# Altium integrated library NSC Temperature Sensor.IntLib: 347 symbols (part 7 of 9)
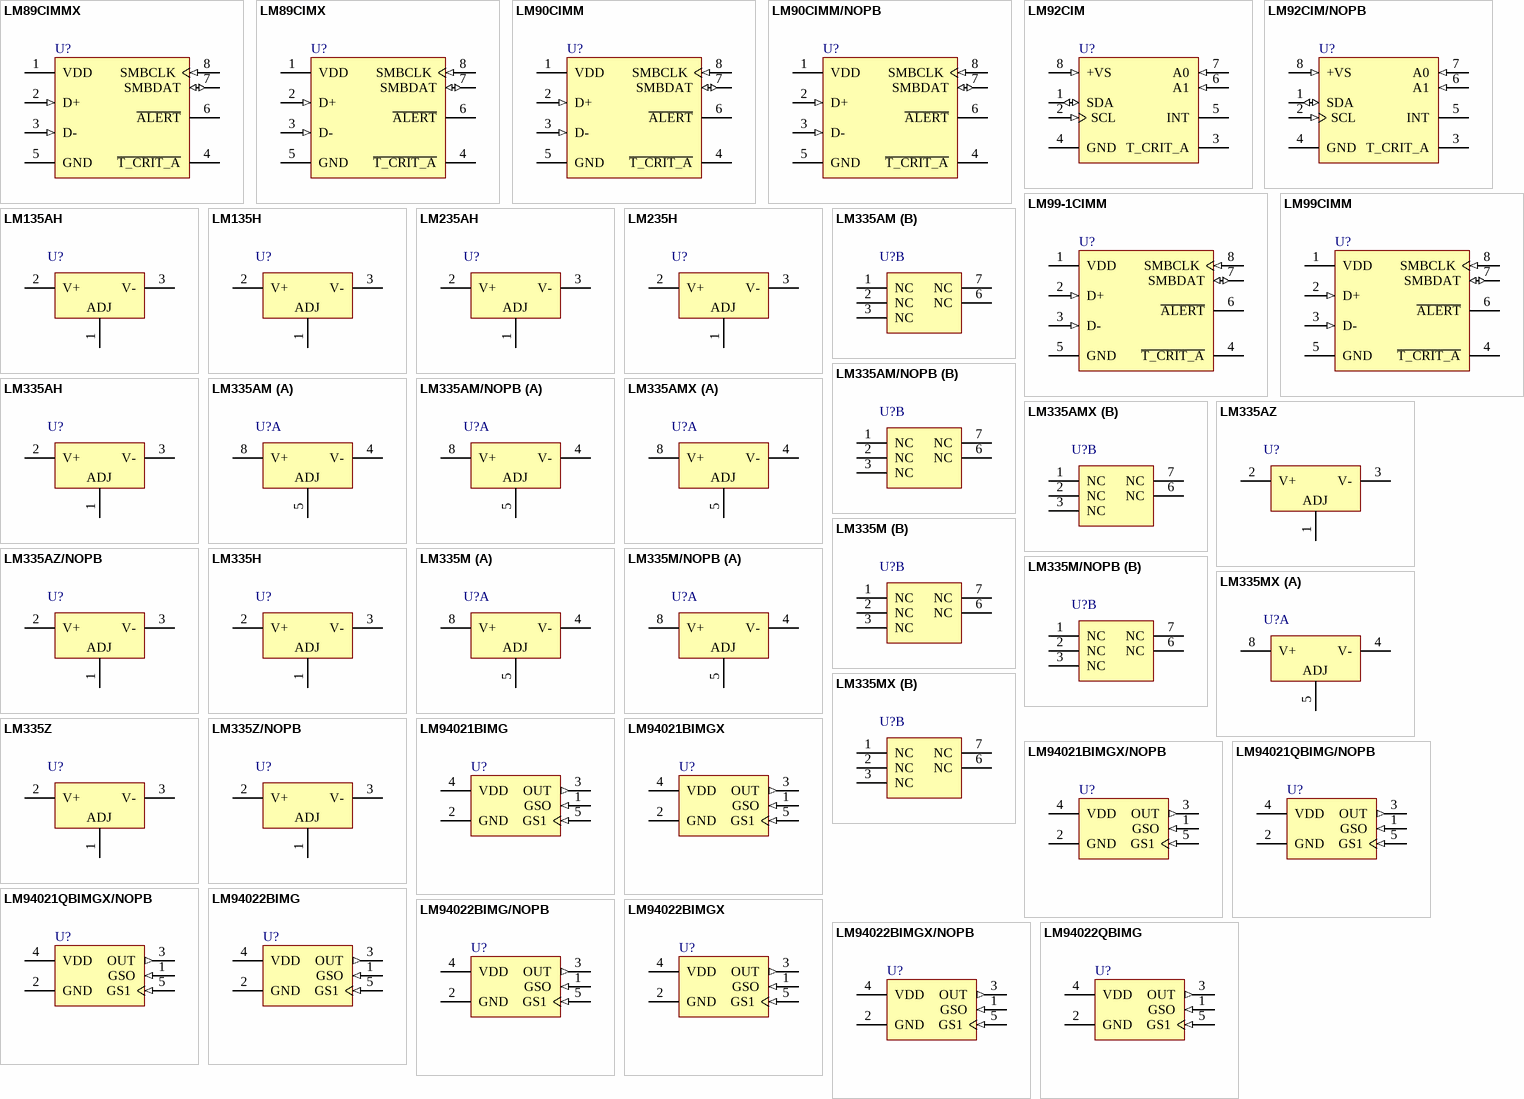
[diagram p15: symbols LM89CIMMX to LM94022QBIMG]

## LM92CIM
designator U?
±0.33ºC Accurate, 12-Bit + Sign Temperature Sensor and Thermal Window Comparator with Two-Wire Interface, 8-pin Narrow SOIC; PartNumber: LM92CIM; Manufacturer: National Semiconductor; PackageTopMarking: NSZXTT*LM92*CIM; PowerWise: Y; CompType: Temp Sensor IC; Published: 4-Dec-2008; DatasheetVersion: Mar-2005; PackageVersion: revM, May-2009; PackageReference: M08A; Publisher: Altium Limited; PackageDescription: SOIC Narrow, 4.9 x 3.9 x 1.45mm, 8 Lead, 1.27mm Pitch; Supplier 1: Farnell; Supplier Part Number 1: 9489711; RoHS: N; PinCount: 8; Code_JEDEC: MS-012-AA; Code_IPC: SOIC127P600-8; ComponentLink1Description: LM92 Datasheet; ComponentLink1URL: http://www.national.com/ds/LM/LM92.pdf; ComponentLink2Description: LM92 Web Page; ComponentLink2URL: http://www.national.com/pf/LM/LM92.html; ComponentLink3Description: M08A Package Page; ComponentLink3URL: http://www.national.com/packaging/folders/m08a.html
footprint M08A_N (SOIC, 8-Leads, Body 4.9x3.9mm, Pitch 1.27mm, IPC Medium Density)
footprint M08A_L (SOIC, 8-Leads, Body 4.9x3.9mm, Pitch 1.27mm, IPC High Density)
footprint M08A_M (SOIC, 8-Leads, Body 4.9x3.9mm, Pitch 1.27mm, IPC Low Density)
pins: 1 SDA (io), 2 SCL (in), 3 T_CRIT_A (oc), 4 GND (power), 5 INT (oc), 6 A1 (in), 7 A0 (in), 8 +VS (in)

## LM92CIM/NOPB
designator U?
±0.33°C Accurate, 12-Bit + Sign Temperature Sensor and Thermal Window Comparator with Two-Wire Interface, 8-pin Narrow SOIC, Pb-Free; PartNumber: LM92CIM/NOPB; Manufacturer: National Semiconductor; PackageTopMarking: NSZXTT*LM92*CIM; PowerWise: Y; CompType: Temp Sensor IC; Published: 1-Mar-2010; DatasheetVersion: Mar-2005; PackageVersion: revM, May-2009; PackageReference: M08A; Publisher: Altium Limited; PackageDescription: SOIC Narrow, 4.9 x 3.9 x 1.45mm, 8 Lead, 1.27mm Pitch; Supplier 1: Digi-Key; Supplier Part Number 1: LM92CIM-ND; Supplier 2: Farnell; Supplier Part Number 2: 1150316; RoHS: Y; PinCount: 8; Code_JEDEC: MS-012-AA; Code_IPC: SOIC127P600-8; ComponentLink1Description: LM92 Datasheet; ComponentLink1URL: http://www.national.com/ds/LM/LM92.pdf; ComponentLink2Description: LM92 Web Page; ComponentLink2URL: http://www.national.com/pf/LM/LM92.html; ComponentLink3Description: M08A Package Page; ComponentLink3URL: http://www.national.com/packaging/folders/m08a.html
footprint M08A_N (SOIC, 8-Leads, Body 4.9x3.9mm, Pitch 1.27mm, IPC Medium Density)
footprint M08A_L (SOIC, 8-Leads, Body 4.9x3.9mm, Pitch 1.27mm, IPC High Density)
footprint M08A_M (SOIC, 8-Leads, Body 4.9x3.9mm, Pitch 1.27mm, IPC Low Density)
pins: 1 SDA (io), 2 SCL (in), 3 T_CRIT_A (oc), 4 GND (power), 5 INT (oc), 6 A1 (in), 7 A0 (in), 8 +VS (in)

## LM99-1CIMM
designator U?
±1ºC Accurate, Remote Diode and Local Digital Temperature Sensor with Two-Wire Interface, 8-pin Mini SOIC; PartNumber: LM99-1CIMM; Manufacturer: National Semiconductor; PackageTopMarking: ZXTT*T20C; PowerWise: Y; CompType: Temp Sensor IC; Published: 4-Dec-2008; DatasheetVersion: Jul-2003; PackageVersion: revF, Apr-2008; PackageReference: MUA08A; Publisher: Altium Limited; PackageDescription: MINI SOIC, .118 x .118 x .034in, 8 Lead, .0256in Pitch; Supplier 1: Farnell; Supplier Part Number 1: 1312804; RoHS: N; PinCount: 8; Code_JEDEC: MO-187-AA; ComponentLink1Description: LM99 Datasheet; ComponentLink1URL: http://www.national.com/ds/LM/LM99.pdf; ComponentLink2Description: LM99 Web Page; ComponentLink2URL: http://www.national.com/pf/LM/LM99.html; ComponentLink3Description: MUA08A Package Page; ComponentLink3URL: http://www.national.com/packaging/folders/mua08a.html
footprint MUA08A_N (TSOP, 8-Leads, Body 3x3mm, Pitch 0.65mm, IPC Medium Density)
footprint MUA08A_L (TSOP, 8-Leads, Body 3x3mm, Pitch 0.65mm, IPC High Density)
footprint MUA08A_M (TSOP, 8-Leads, Body 3x3mm, Pitch 0.65mm, IPC Low Density)
pins: 1 VDD (power), 2 D+ (in), 3 D- (in), 4 ~{T_CRIT_A} (oc), 5 GND (power), 6 ~{ALERT} (oc), 7 SMBDAT (io), 8 SMBCLK (in)

## LM99CIMM
designator U?
±1ºC Accurate, Remote Diode and Local Digital Temperature Sensor with Two-Wire Interface, 8-pin Mini SOIC; PartNumber: LM99CIMM; Manufacturer: National Semiconductor; PackageTopMarking: ZXTT*T17C; PowerWise: Y; CompType: Temp Sensor IC; Published: 4-Dec-2008; DatasheetVersion: Jul-2003; PackageVersion: revF, Apr-2008; PackageReference: MUA08A; Publisher: Altium Limited; PackageDescription: MINI SOIC, .118 x .118 x .034in, 8 Lead, .0256in Pitch; Supplier 1: Farnell; Supplier Part Number 1: 1312805; RoHS: N; PinCount: 8; Code_JEDEC: MO-187-AA; ComponentLink1Description: LM99 Datasheet; ComponentLink1URL: http://www.national.com/ds/LM/LM99.pdf; ComponentLink2Description: LM99 Web Page; ComponentLink2URL: http://www.national.com/pf/LM/LM99.html; ComponentLink3Description: MUA08A Package Page; ComponentLink3URL: http://www.national.com/packaging/folders/mua08a.html
footprint MUA08A_N (TSOP, 8-Leads, Body 3x3mm, Pitch 0.65mm, IPC Medium Density)
footprint MUA08A_L (TSOP, 8-Leads, Body 3x3mm, Pitch 0.65mm, IPC High Density)
footprint MUA08A_M (TSOP, 8-Leads, Body 3x3mm, Pitch 0.65mm, IPC Low Density)
pins: 1 VDD (power), 2 D+ (in), 3 D- (in), 4 ~{T_CRIT_A} (oc), 5 GND (power), 6 ~{ALERT} (oc), 7 SMBDAT (io), 8 SMBCLK (in)

## LM135AH
designator U?
Precision Temperature Sensor, 3-pin TO-46; PartNumber: LM135AH; Manufacturer: National Semiconductor; PackageTopMarking: NSXYTTE# LM135AH; PowerWise: N; CompType: Temp Sensor IC; High-Reliability: Y; Published: 29-May-2009; DatasheetVersion: Dec-2008; PackageVersion: revF, Apr-2002; PackageReference: H03H; Publisher: Altium Limited; PackageDescription: Metal Can, TO-46, 3 Lead, .100in Dia, P.C.; RoHS: N; PinCount: 3; Code_JEDEC: TO-46; ComponentLink1Description: LM135A Datasheet; ComponentLink1URL: http://www.national.com/ds/LM/LM135A.pdf; ComponentLink2Description: LM135A Web Page; ComponentLink2URL: http://www.national.com/pf/LM/LM135A.html; ComponentLink3Description: H03H Package Page; ComponentLink3URL: http://www.national.com/packaging/folders/h03h.html
footprint H03H (Can; 3 Leads; Pin Circle Dia. 2.54 mm; Lead Dia. 0.48 mm (max))
pins: 1 ADJ, 2 V+, 3 V-

## LM135H
designator U?
Precision Temperature Sensor, 3-pin TO-46; PartNumber: LM135H; Manufacturer: National Semiconductor; PackageTopMarking: NSXYTTE# LM135H; PowerWise: N; CompType: Temp Sensor IC; High-Reliability: Y; Published: 29-May-2009; DatasheetVersion: Dec-2008; PackageVersion: revF, Apr-2002; PackageReference: H03H; Publisher: Altium Limited; PackageDescription: Metal Can, TO-46, 3 Lead, .100in Dia, P.C.; Supplier 1: Farnell; Supplier Part Number 1: 1216167; RoHS: N; PinCount: 3; Code_JEDEC: TO-46; ComponentLink1Description: LM135 Datasheet; ComponentLink1URL: http://www.national.com/ds/LM/LM135.pdf; ComponentLink2Description: LM135 Web Page; ComponentLink2URL: http://www.national.com/pf/LM/LM135.html; ComponentLink3Description: H03H Package Page; ComponentLink3URL: http://www.national.com/packaging/folders/h03h.html
footprint H03H (Can; 3 Leads; Pin Circle Dia. 2.54 mm; Lead Dia. 0.48 mm (max))
pins: 1 ADJ, 2 V+, 3 V-

## LM235AH
designator U?
Precision Temperature Sensor, 3-pin TO-46; PartNumber: LM235AH; Manufacturer: National Semiconductor; PackageTopMarking: NSXYTTE# LM235AH; PowerWise: N; CompType: Temp Sensor IC; High-Reliability: Y; Published: 29-May-2009; DatasheetVersion: Dec-2008; PackageVersion: revF, Apr-2002; PackageReference: H03H; Publisher: Altium Limited; PackageDescription: Metal Can, TO-46, 3 Lead, .100in Dia, P.C.; RoHS: N; PinCount: 3; Code_JEDEC: TO-46; ComponentLink1Description: LM235A Datasheet; ComponentLink1URL: http://www.national.com/ds/LM/LM235A.pdf; ComponentLink2Description: LM235A Web Page; ComponentLink2URL: http://www.national.com/pf/LM/LM235A.html; ComponentLink3Description: H03H Package Page; ComponentLink3URL: http://www.national.com/packaging/folders/h03h.html
footprint H03H (Can; 3 Leads; Pin Circle Dia. 2.54 mm; Lead Dia. 0.48 mm (max))
pins: 1 ADJ, 2 V+, 3 V-

## LM235H
designator U?
Precision Temperature Sensor, 3-pin TO-46; PartNumber: LM235H; Manufacturer: National Semiconductor; PackageTopMarking: NSXYTTE# LM235H; PowerWise: N; CompType: Temp Sensor IC; High-Reliability: Y; Published: 29-May-2009; DatasheetVersion: Dec-2008; PackageVersion: revF, Apr-2002; PackageReference: H03H; Publisher: Altium Limited; PackageDescription: Metal Can, TO-46, 3 Lead, .100in Dia, P.C.; RoHS: N; PinCount: 3; Code_JEDEC: TO-46; ComponentLink1Description: LM235 Datasheet; ComponentLink1URL: http://www.national.com/ds/LM/LM235.pdf; ComponentLink2Description: LM235 Web Page; ComponentLink2URL: http://www.national.com/pf/LM/LM235.html; ComponentLink3Description: H03H Package Page; ComponentLink3URL: http://www.national.com/packaging/folders/h03h.html
footprint H03H (Can; 3 Leads; Pin Circle Dia. 2.54 mm; Lead Dia. 0.48 mm (max))
pins: 1 ADJ, 2 V+, 3 V-

## LM335AH
designator U?
Precision Temperature Sensor, 3-pin TO-46; PartNumber: LM335AH; Manufacturer: National Semiconductor; PackageTopMarking: NSXYTTE# LM335AH; PowerWise: N; CompType: Temp Sensor IC; High-Reliability: Y; Published: 29-May-2009; DatasheetVersion: Dec-2008; PackageVersion: revF, Apr-2002; PackageReference: H03H; Publisher: Altium Limited; PackageDescription: Metal Can, TO-46, 3 Lead, .100in Dia, P.C.; RoHS: N; PinCount: 3; Code_JEDEC: TO-46; ComponentLink1Description: LM335A Datasheet; ComponentLink1URL: http://www.national.com/ds/LM/LM335A.pdf; ComponentLink2Description: LM335A Web Page; ComponentLink2URL: http://www.national.com/pf/LM/LM335A.html; ComponentLink3Description: H03H Package Page; ComponentLink3URL: http://www.national.com/packaging/folders/h03h.html
footprint H03H (Can; 3 Leads; Pin Circle Dia. 2.54 mm; Lead Dia. 0.48 mm (max))
pins: 1 ADJ, 2 V+, 3 V-

## LM335AM
designator U?
Precision Temperature Sensor, 8-pin Narrow SOIC; PartNumber: LM335AM; Manufacturer: National Semiconductor; PackageTopMarking: NSZXTT*LM335*AM; PowerWise: N; CompType: Temp Sensor IC; Published: 29-May-2009; DatasheetVersion: Dec-2008; PackageVersion: revM, May-2009; PackageReference: M08A; Publisher: Altium Limited; PackageDescription: SOIC Narrow, 4.9 x 3.9 x 1.45mm, 8 Lead, 1.27mm Pitch; Supplier 1: Farnell; Supplier Part Number 1: 4466822; RoHS: N; PinCount: 8; Code_JEDEC: MS-012-AA; Code_IPC: SOIC127P600-8; ComponentLink1Description: LM335A Datasheet; ComponentLink1URL: http://www.national.com/ds/LM/LM335.pdf; ComponentLink2Description: LM335A Web Page; ComponentLink2URL: http://www.national.com/pf/LM/LM335A.html; ComponentLink3Description: M08A Package Page; ComponentLink3URL: http://www.national.com/packaging/folders/m08a.html
footprint M08A_N (SOIC, 8-Leads, Body 4.9x3.9mm, Pitch 1.27mm, IPC Medium Density)
footprint M08A_L (SOIC, 8-Leads, Body 4.9x3.9mm, Pitch 1.27mm, IPC High Density)
footprint M08A_M (SOIC, 8-Leads, Body 4.9x3.9mm, Pitch 1.27mm, IPC Low Density)
part A pins: 4 V-, 5 ADJ, 8 V+
part B pins: 1 NC, 2 NC, 3 NC, 6 NC, 7 NC

## LM335AM/NOPB
designator U?
Precision Temperature Sensor, 8-pin Narrow SOIC, Pb-Free; PartNumber: LM335AM/NOPB; Manufacturer: National Semiconductor; PackageTopMarking: NSZXTT*LM335*AM; PowerWise: N; CompType: Temp Sensor IC; Published: 1-Mar-2010; DatasheetVersion: Dec-2008; PackageVersion: revM, May-2009; PackageReference: M08A; Publisher: Altium Limited; PackageDescription: SOIC Narrow, 4.9 x 3.9 x 1.45mm, 8 Lead, 1.27mm Pitch; Supplier 1: Digi-Key; Supplier Part Number 1: LM335AM-ND; Supplier 2: Farnell; Supplier Part Number 2: 1694532; RoHS: Y; PinCount: 8; Code_JEDEC: MS-012-AA; Code_IPC: SOIC127P600-8; ComponentLink1Description: LM335A Datasheet; ComponentLink1URL: http://www.national.com/ds/LM/LM335.pdf; ComponentLink2Description: LM335A Web Page; ComponentLink2URL: http://www.national.com/pf/LM/LM335A.html; ComponentLink3Description: M08A Package Page; ComponentLink3URL: http://www.national.com/packaging/folders/m08a.html
footprint M08A_N (SOIC, 8-Leads, Body 4.9x3.9mm, Pitch 1.27mm, IPC Medium Density)
footprint M08A_L (SOIC, 8-Leads, Body 4.9x3.9mm, Pitch 1.27mm, IPC High Density)
footprint M08A_M (SOIC, 8-Leads, Body 4.9x3.9mm, Pitch 1.27mm, IPC Low Density)
part A pins: 4 V-, 5 ADJ, 8 V+
part B pins: 1 NC, 2 NC, 3 NC, 6 NC, 7 NC

## LM335AMX
designator U?
Precision Temperature Sensor, 8-pin Narrow SOIC; PartNumber: LM335AMX; Manufacturer: National Semiconductor; PackageTopMarking: NSZXTT*LM335*AM; PowerWise: N; CompType: Temp Sensor IC; Published: 1-Mar-2010; DatasheetVersion: Dec-2008; PackageVersion: revM, May-2009; PackageReference: M08A; Publisher: Altium Limited; PackageDescription: SOIC Narrow, 4.9 x 3.9 x 1.45mm, 8 Lead, 1.27mm Pitch; RoHS: N; PinCount: 8; Code_JEDEC: MS-012-AA; Code_IPC: SOIC127P600-8; ComponentLink1Description: LM335A Datasheet; ComponentLink1URL: http://www.national.com/ds/LM/LM335.pdf; ComponentLink2Description: LM335A Web Page; ComponentLink2URL: http://www.national.com/pf/LM/LM335A.html; ComponentLink3Description: M08A Package Page; ComponentLink3URL: http://www.national.com/packaging/folders/m08a.html
footprint M08A_N (SOIC, 8-Leads, Body 4.9x3.9mm, Pitch 1.27mm, IPC Medium Density)
footprint M08A_L (SOIC, 8-Leads, Body 4.9x3.9mm, Pitch 1.27mm, IPC High Density)
footprint M08A_M (SOIC, 8-Leads, Body 4.9x3.9mm, Pitch 1.27mm, IPC Low Density)
part A pins: 4 V-, 5 ADJ, 8 V+
part B pins: 1 NC, 2 NC, 3 NC, 6 NC, 7 NC

## LM335AZ
designator U?
Precision Temperature Sensor, 3-pin TO-92; PartNumber: LM335AZ; Manufacturer: National Semiconductor; PackageTopMarking: NSXYTT*LM335*AZ; PowerWise: N; CompType: Temp Sensor IC; Published: 29-May-2009; DatasheetVersion: Dec-2008; PackageVersion: revG, Sep-2000; PackageReference: Z03A; Publisher: Altium Limited; PackageDescription: TO-92, Molded, 3 Lead; Supplier 1: Digi-Key; Supplier Part Number 1: LM335AZ-ND; Supplier 2: Farnell; Supplier Part Number 2: 4355260; RoHS: N; PinCount: 3; Code_JEDEC: TO-226-AA; ComponentLink1Description: LM335A Datasheet; ComponentLink1URL: http://www.national.com/ds/LM/LM335.pdf; ComponentLink2Description: LM335A Web Page; ComponentLink2URL: http://www.national.com/pf/LM/LM335A.html; ComponentLink3Description: Z03A Package Page; ComponentLink3URL: http://www.national.com/packaging/folders/z03a.html
footprint Z03A (TO, Flat Index; 3 In-Line, Axial Leads; Body Dia. 5mm; Leads 0.55 x 0.50 mm (max))
pins: 1 ADJ, 2 V+, 3 V-

## LM335AZ/NOPB
designator U?
Precision Temperature Sensor, 3-pin TO-92, Pb-Free; PartNumber: LM335AZ/NOPB; Manufacturer: National Semiconductor; PackageTopMarking: NSXYTT*LM335*AZ; PowerWise: N; CompType: Temp Sensor IC; Published: 1-Mar-2010; DatasheetVersion: Dec-2008; PackageVersion: revG, Sep-2000; PackageReference: Z03A; Publisher: Altium Limited; PackageDescription: TO-92, Molded, 3 Lead; Supplier 1: Digi-Key; Supplier Part Number 1: LM335AZNS-ND; Supplier 2: Farnell; Supplier Part Number 2: 1469227; RoHS: Y; PinCount: 3; Code_JEDEC: TO-226-AA; ComponentLink1Description: LM335A Datasheet; ComponentLink1URL: http://www.national.com/ds/LM/LM335.pdf; ComponentLink2Description: LM335A Web Page; ComponentLink2URL: http://www.national.com/pf/LM/LM335A.html; ComponentLink3Description: Z03A Package Page; ComponentLink3URL: http://www.national.com/packaging/folders/z03a.html
footprint Z03A (TO, Flat Index; 3 In-Line, Axial Leads; Body Dia. 5mm; Leads 0.55 x 0.50 mm (max))
pins: 1 ADJ, 2 V+, 3 V-

## LM335H
designator U?
Precision Temperature Sensor, 3-pin TO-46; PartNumber: LM335H; Manufacturer: National Semiconductor; PackageTopMarking: NSXYTTE# LM335H; PowerWise: N; CompType: Temp Sensor IC; High-Reliability: Y; Published: 29-May-2009; DatasheetVersion: Dec-2008; PackageVersion: revF, Apr-2002; PackageReference: H03H; Publisher: Altium Limited; PackageDescription: Metal Can, TO-46, 3 Lead, .100in Dia, P.C.; Supplier 1: Farnell; Supplier Part Number 1: 1216169; RoHS: N; PinCount: 3; Code_JEDEC: TO-46; ComponentLink1Description: LM335 Datasheet; ComponentLink1URL: http://www.national.com/ds/LM/LM335.pdf; ComponentLink2Description: LM335 Web Page; ComponentLink2URL: http://www.national.com/pf/LM/LM335.html; ComponentLink3Description: H03H Package Page; ComponentLink3URL: http://www.national.com/packaging/folders/h03h.html
footprint H03H (Can; 3 Leads; Pin Circle Dia. 2.54 mm; Lead Dia. 0.48 mm (max))
pins: 1 ADJ, 2 V+, 3 V-

## LM335M
designator U?
Precision Temperature Sensor, 8-pin Narrow SOIC; PartNumber: LM335M; Manufacturer: National Semiconductor; PackageTopMarking: NSZXTT*LM335*M; PowerWise: N; CompType: Temp Sensor IC; Published: 29-May-2009; DatasheetVersion: Dec-2008; PackageVersion: revM, May-2009; PackageReference: M08A; Publisher: Altium Limited; PackageDescription: SOIC Narrow, 4.9 x 3.9 x 1.45mm, 8 Lead, 1.27mm Pitch; Supplier 1: Farnell; Supplier Part Number 1: 4466834; RoHS: N; PinCount: 8; Code_JEDEC: MS-012-AA; Code_IPC: SOIC127P600-8; ComponentLink1Description: LM335 Datasheet; ComponentLink1URL: http://www.national.com/ds/LM/LM335.pdf; ComponentLink2Description: LM335 Web Page; ComponentLink2URL: http://www.national.com/pf/LM/LM335.html; ComponentLink3Description: M08A Package Page; ComponentLink3URL: http://www.national.com/packaging/folders/m08a.html
footprint M08A_N (SOIC, 8-Leads, Body 4.9x3.9mm, Pitch 1.27mm, IPC Medium Density)
footprint M08A_L (SOIC, 8-Leads, Body 4.9x3.9mm, Pitch 1.27mm, IPC High Density)
footprint M08A_M (SOIC, 8-Leads, Body 4.9x3.9mm, Pitch 1.27mm, IPC Low Density)
part A pins: 4 V-, 5 ADJ, 8 V+
part B pins: 1 NC, 2 NC, 3 NC, 6 NC, 7 NC

## LM335M/NOPB
designator U?
Precision Temperature Sensor, 8-pin Narrow SOIC, Pb-Free; PartNumber: LM335M/NOPB; Manufacturer: National Semiconductor; PackageTopMarking: NSZXTT*LM335*M; PowerWise: N; CompType: Temp Sensor IC; Published: 1-Mar-2010; DatasheetVersion: Dec-2008; PackageVersion: revM, May-2009; PackageReference: M08A; Publisher: Altium Limited; PackageDescription: SOIC Narrow, 4.9 x 3.9 x 1.45mm, 8 Lead, 1.27mm Pitch; Supplier 1: Digi-Key; Supplier Part Number 1: LM335M-ND; Supplier 2: Farnell; Supplier Part Number 2: 1469229; RoHS: Y; PinCount: 8; Code_JEDEC: MS-012-AA; Code_IPC: SOIC127P600-8; ComponentLink1Description: LM335 Datasheet; ComponentLink1URL: http://www.national.com/ds/LM/LM335.pdf; ComponentLink2Description: LM335 Web Page; ComponentLink2URL: http://www.national.com/pf/LM/LM335.html; ComponentLink3Description: M08A Package Page; ComponentLink3URL: http://www.national.com/packaging/folders/m08a.html
footprint M08A_N (SOIC, 8-Leads, Body 4.9x3.9mm, Pitch 1.27mm, IPC Medium Density)
footprint M08A_L (SOIC, 8-Leads, Body 4.9x3.9mm, Pitch 1.27mm, IPC High Density)
footprint M08A_M (SOIC, 8-Leads, Body 4.9x3.9mm, Pitch 1.27mm, IPC Low Density)
part A pins: 4 V-, 5 ADJ, 8 V+
part B pins: 1 NC, 2 NC, 3 NC, 6 NC, 7 NC

## LM335MX
designator U?
Precision Temperature Sensor, 8-pin Narrow SOIC; PartNumber: LM335MX; Manufacturer: National Semiconductor; PackageTopMarking: NSZXTT*LM335*M; PowerWise: N; CompType: Temp Sensor IC; Published: 1-Mar-2010; DatasheetVersion: Dec-2008; PackageVersion: revM, May-2009; PackageReference: M08A; Publisher: Altium Limited; PackageDescription: SOIC Narrow, 4.9 x 3.9 x 1.45mm, 8 Lead, 1.27mm Pitch; RoHS: N; PinCount: 8; Code_JEDEC: MS-012-AA; Code_IPC: SOIC127P600-8; ComponentLink1Description: LM335 Datasheet; ComponentLink1URL: http://www.national.com/ds/LM/LM335.pdf; ComponentLink2Description: LM335 Web Page; ComponentLink2URL: http://www.national.com/pf/LM/LM335.html; ComponentLink3Description: M08A Package Page; ComponentLink3URL: http://www.national.com/packaging/folders/m08a.html
footprint M08A_N (SOIC, 8-Leads, Body 4.9x3.9mm, Pitch 1.27mm, IPC Medium Density)
footprint M08A_L (SOIC, 8-Leads, Body 4.9x3.9mm, Pitch 1.27mm, IPC High Density)
footprint M08A_M (SOIC, 8-Leads, Body 4.9x3.9mm, Pitch 1.27mm, IPC Low Density)
part A pins: 4 V-, 5 ADJ, 8 V+
part B pins: 1 NC, 2 NC, 3 NC, 6 NC, 7 NC

## LM335Z
designator U?
Precision Temperature Sensor, 3-pin TO-92; PartNumber: LM335Z; Manufacturer: National Semiconductor; PackageTopMarking: NSXYTT*LM335*Z; PowerWise: N; CompType: Temp Sensor IC; Published: 29-May-2009; DatasheetVersion: Dec-2008; PackageVersion: revG, Sep-2000; PackageReference: Z03A; Publisher: Altium Limited; PackageDescription: TO-92, Molded, 3 Lead; Supplier 1: Farnell; Supplier Part Number 1: 9488219; RoHS: N; PinCount: 3; Code_JEDEC: TO-226-AA; ComponentLink1Description: LM335 Datasheet; ComponentLink1URL: http://www.national.com/ds/LM/LM335.pdf; ComponentLink2Description: LM335 Web Page; ComponentLink2URL: http://www.national.com/pf/LM/LM335.html; ComponentLink3Description: Z03A Package Page; ComponentLink3URL: http://www.national.com/packaging/folders/z03a.html
footprint Z03A (TO, Flat Index; 3 In-Line, Axial Leads; Body Dia. 5mm; Leads 0.55 x 0.50 mm (max))
pins: 1 ADJ, 2 V+, 3 V-

## LM335Z/NOPB
designator U?
Precision Temperature Sensor, 3-pin TO-92, Pb-Free; PartNumber: LM335Z/NOPB; Manufacturer: National Semiconductor; PackageTopMarking: NSXYTT*LM335*Z; PowerWise: N; CompType: Temp Sensor IC; Published: 1-Mar-2010; DatasheetVersion: Dec-2008; PackageVersion: revG, Sep-2000; PackageReference: Z03A; Publisher: Altium Limited; PackageDescription: TO-92, Molded, 3 Lead; Supplier 1: Digi-Key; Supplier Part Number 1: LM335ZNS-ND; Supplier 2: Farnell; Supplier Part Number 2: 1564652; RoHS: Y; PinCount: 3; Code_JEDEC: TO-226-AA; ComponentLink1Description: LM335 Datasheet; ComponentLink1URL: http://www.national.com/ds/LM/LM335.pdf; ComponentLink2Description: LM335 Web Page; ComponentLink2URL: http://www.national.com/pf/LM/LM335.html; ComponentLink3Description: Z03A Package Page; ComponentLink3URL: http://www.national.com/packaging/folders/z03a.html
footprint Z03A (TO, Flat Index; 3 In-Line, Axial Leads; Body Dia. 5mm; Leads 0.55 x 0.50 mm (max))
pins: 1 ADJ, 2 V+, 3 V-

## LM94021BIMG
designator U?
Multi-Gain Analog Temperature Sensor, 5-pin SC-70; PartNumber: LM94021BIMG; Manufacturer: National Semiconductor; PackageTopMarking: 21B*XTT; PowerWise: Y; CompType: Temp Sensor IC; Published: 4-Dec-2008; DatasheetVersion: Feb-2010; PackageVersion: revD, Jun-2007; PackageReference: MAA05A; Publisher: Altium Limited; PackageDescription: Molded SC-70, 2 x 1.25 x .9mm, 5 Lead, 0.65mm Pitch; Supplier 1: Farnell; Supplier Part Number 1: 1047766; RoHS: N; PinCount: 5; Code_JEITA: SC-88A; Code_JEDEC: MO-203-AA; Code_IPC: SOT353-5; ComponentLink1Description: LM94021 Datasheet; ComponentLink1URL: http://www.national.com/ds/LM/LM94021.pdf; ComponentLink2Description: LM94021 Web Page; ComponentLink2URL: http://www.national.com/pf/LM/LM94021.html; ComponentLink3Description: MAA05A Package Page; ComponentLink3URL: http://www.national.com/packaging/folders/maa05a.html
footprint MAA05A_N (SOT353, 5-Leads, Body 2x1.3mm, Pitch 0.65mm, Lead Span 2.1mm, IPC Medium Density)
footprint MAA05A_L (SOT353, 5-Leads, Body 2x1.3mm, Pitch 0.65mm, Lead Span 2.1mm, IPC High Density)
footprint MAA05A_M (SOT353, 5-Leads, Body 2x1.3mm, Pitch 0.65mm, Lead Span 2.1mm, IPC Low Density)
pins: 1 GSO (in), 2 GND (power), 3 OUT (out), 4 VDD (power), 5 GS1 (in)

## LM94021BIMGX
designator U?
Multi-Gain Analog Temperature Sensor, 5-pin SC-70; PartNumber: LM94021BIMGX; Manufacturer: National Semiconductor; PackageTopMarking: 21B*XTT; PowerWise: Y; CompType: Temp Sensor IC; Published: 1-Mar-2010; DatasheetVersion: Feb-2010; PackageVersion: revD, Jun-2007; PackageReference: MAA05A; Publisher: Altium Limited; PackageDescription: Molded SC-70, 2 x 1.25 x .9mm, 5 Lead, 0.65mm Pitch; RoHS: N; PinCount: 5; Code_JEITA: SC-88A; Code_JEDEC: MO-203-AA; Code_IPC: SOT353-5; ComponentLink1Description: LM94021 Datasheet; ComponentLink1URL: http://www.national.com/ds/LM/LM94021.pdf; ComponentLink2Description: LM94021 Web Page; ComponentLink2URL: http://www.national.com/pf/LM/LM94021.html; ComponentLink3Description: MAA05A Package Page; ComponentLink3URL: http://www.national.com/packaging/folders/maa05a.html
footprint MAA05A_N (SOT353, 5-Leads, Body 2x1.3mm, Pitch 0.65mm, Lead Span 2.1mm, IPC Medium Density)
footprint MAA05A_L (SOT353, 5-Leads, Body 2x1.3mm, Pitch 0.65mm, Lead Span 2.1mm, IPC High Density)
footprint MAA05A_M (SOT353, 5-Leads, Body 2x1.3mm, Pitch 0.65mm, Lead Span 2.1mm, IPC Low Density)
pins: 1 GSO (in), 2 GND (power), 3 OUT (out), 4 VDD (power), 5 GS1 (in)

## LM94021BIMGX/NOPB
designator U?
Multi-Gain Analog Temperature Sensor, 5-pin SC-70, Pb-Free; PartNumber: LM94021BIMGX/NOPB; Manufacturer: National Semiconductor; PackageTopMarking: 21B*XTT; PowerWise: Y; CompType: Temp Sensor IC; Published: 1-Mar-2010; DatasheetVersion: Feb-2010; PackageVersion: revD, Jun-2007; PackageReference: MAA05A; Publisher: Altium Limited; PackageDescription: Molded SC-70, 2 x 1.25 x .9mm, 5 Lead, 0.65mm Pitch; Supplier 1: Digi-Key; Supplier Part Number 1: LM94021BIMGX-ND; RoHS: Y; PinCount: 5; Code_JEITA: SC-88A; Code_JEDEC: MO-203-AA; Code_IPC: SOT353-5; ComponentLink1Description: LM94021 Datasheet; ComponentLink1URL: http://www.national.com/ds/LM/LM94021.pdf; ComponentLink2Description: LM94021 Web Page; ComponentLink2URL: http://www.national.com/pf/LM/LM94021.html; ComponentLink3Description: MAA05A Package Page; ComponentLink3URL: http://www.national.com/packaging/folders/maa05a.html
footprint MAA05A_N (SOT353, 5-Leads, Body 2x1.3mm, Pitch 0.65mm, Lead Span 2.1mm, IPC Medium Density)
footprint MAA05A_L (SOT353, 5-Leads, Body 2x1.3mm, Pitch 0.65mm, Lead Span 2.1mm, IPC High Density)
footprint MAA05A_M (SOT353, 5-Leads, Body 2x1.3mm, Pitch 0.65mm, Lead Span 2.1mm, IPC Low Density)
pins: 1 GSO (in), 2 GND (power), 3 OUT (out), 4 VDD (power), 5 GS1 (in)

## LM94021QBIMG/NOPB
designator U?
Multi-Gain Analog Temperature Sensor, 5 pin SC-70, Pb-Free; PartNumber: LM94021QBIMG/NOPB; Manufacturer: National Semiconductor; PackageTopMarking: 21Q*XTT; PowerWise: N; CompType: Temp Sensor IC; Published: 1-Mar-2010; DatasheetVersion: Feb-2010; PackageVersion: revD, Jun-2007; PackageReference: MAA05A; Publisher: Altium Limited; PackageDescription: Molded SC-70, 2 x 1.25 x .9mm, 5 Lead, 0.65mm Pitch; Supplier 1: Digi-Key; Supplier Part Number 1: LM94021QBIMGTR-ND; Supplier 2: Digi-Key; Supplier Part Number 2: LM94021QBIMGCT-ND; Supplier 3: Digi-Key; Supplier Part Number 3: LM94021QBIMGDKR-ND; Supplier 4: Farnell; Supplier Part Number 4: 1800194; RoHS: Y; PinCount: 5; Code_JEITA: SC-88A; Code_JEDEC: MO-203-AA; Code_IPC: SOT353-5; ComponentLink1Description: LM94021 Datasheet; ComponentLink1URL: http://www.national.com/ds/LM/LM94021.pdf; ComponentLink2Description: LM94021 Web Page; ComponentLink2URL: http://www.national.com/pf/LM/LM94021.html; ComponentLink3Description: MAA05A Package Page; ComponentLink3URL: http://www.national.com/packaging/folders/maa05a.html
footprint MAA05A_N (SOT353, 5-Leads, Body 2x1.3mm, Pitch 0.65mm, Lead Span 2.1mm, IPC Medium Density)
footprint MAA05A_L (SOT353, 5-Leads, Body 2x1.3mm, Pitch 0.65mm, Lead Span 2.1mm, IPC High Density)
footprint MAA05A_M (SOT353, 5-Leads, Body 2x1.3mm, Pitch 0.65mm, Lead Span 2.1mm, IPC Low Density)
pins: 1 GSO (in), 2 GND (power), 3 OUT (out), 4 VDD (power), 5 GS1 (in)

## LM94021QBIMGX/NOPB
designator U?
Multi-Gain Analog Temperature Sensor, 5 pin SC-70, Pb-Free; PartNumber: LM94021QBIMGX/NOPB; Manufacturer: National Semiconductor; PackageTopMarking: 21Q*XTT; PowerWise: N; CompType: Temp Sensor IC; Published: 1-Mar-2010; DatasheetVersion: Feb-2010; PackageVersion: revD, Jun-2007; PackageReference: MAA05A; Publisher: Altium Limited; PackageDescription: Molded SC-70, 2 x 1.25 x .9mm, 5 Lead, 0.65mm Pitch; Supplier 1: Digi-Key; Supplier Part Number 1: LM94021QBIMGX-ND; RoHS: Y; PinCount: 5; Code_JEITA: SC-88A; Code_JEDEC: MO-203-AA; Code_IPC: SOT353-5; ComponentLink1Description: LM94021 Datasheet; ComponentLink1URL: http://www.national.com/ds/LM/LM94021.pdf; ComponentLink2Description: LM94021 Web Page; ComponentLink2URL: http://www.national.com/pf/LM/LM94021.html; ComponentLink3Description: MAA05A Package Page; ComponentLink3URL: http://www.national.com/packaging/folders/maa05a.html
footprint MAA05A_N (SOT353, 5-Leads, Body 2x1.3mm, Pitch 0.65mm, Lead Span 2.1mm, IPC Medium Density)
footprint MAA05A_L (SOT353, 5-Leads, Body 2x1.3mm, Pitch 0.65mm, Lead Span 2.1mm, IPC High Density)
footprint MAA05A_M (SOT353, 5-Leads, Body 2x1.3mm, Pitch 0.65mm, Lead Span 2.1mm, IPC Low Density)
pins: 1 GSO (in), 2 GND (power), 3 OUT (out), 4 VDD (power), 5 GS1 (in)

## LM94022BIMG
designator U?
1.5V, Multi-Gain Analog Temperature Sensor with Class-AB Output, 5-pin SC-70; PartNumber: LM94022BIMG; Manufacturer: National Semiconductor; PackageTopMarking: 22B*XTT; PowerWise: Y; CompType: Temp Sensor IC; Published: 4-Dec-2008; DatasheetVersion: Mar-2009; PackageVersion: revD, Jun-2007; PackageReference: MAA05A; Publisher: Altium Limited; PackageDescription: Molded SC-70, 2 x 1.25 x .9mm, 5 Lead, 0.65mm Pitch; Supplier 1: Farnell; Supplier Part Number 1: 1312600; RoHS: N; PinCount: 5; Code_JEITA: SC-88A; Code_JEDEC: MO-203-AA; Code_IPC: SOT353-5; ComponentLink1Description: LM94022 Datasheet; ComponentLink1URL: http://www.national.com/ds/LM/LM94022.pdf; ComponentLink2Description: LM94022 Web Page; ComponentLink2URL: http://www.national.com/pf/LM/LM94022.html; ComponentLink3Description: MAA05A Package Page; ComponentLink3URL: http://www.national.com/packaging/folders/maa05a.html
footprint MAA05A_N (SOT353, 5-Leads, Body 2x1.3mm, Pitch 0.65mm, Lead Span 2.1mm, IPC Medium Density)
footprint MAA05A_L (SOT353, 5-Leads, Body 2x1.3mm, Pitch 0.65mm, Lead Span 2.1mm, IPC High Density)
footprint MAA05A_M (SOT353, 5-Leads, Body 2x1.3mm, Pitch 0.65mm, Lead Span 2.1mm, IPC Low Density)
pins: 1 GSO (in), 2 GND (power), 3 OUT (out), 4 VDD (power), 5 GS1 (in)

## LM94022BIMG/NOPB
designator U?
1.5V, Multi-Gain Analog Temperature Sensor with Class-AB Output, 5-pin SC-70, Pb-Free; PartNumber: LM94022BIMG/NOPB; Manufacturer: National Semiconductor; PackageTopMarking: 22B*XTT; PowerWise: Y; CompType: Temp Sensor IC; Published: 1-Mar-2010; DatasheetVersion: Mar-2009; PackageVersion: revD, Jun-2007; PackageReference: MAA05A; Publisher: Altium Limited; PackageDescription: Molded SC-70, 2 x 1.25 x .9mm, 5 Lead, 0.65mm Pitch; Supplier 1: Digi-Key; Supplier Part Number 1: LM94022BIMGTR-ND; Supplier 2: Digi-Key; Supplier Part Number 2: LM94022BIMGCT-ND; Supplier 3: Digi-Key; Supplier Part Number 3: LM94022BIMGDKR-ND; Supplier 4: Farnell; Supplier Part Number 4: 1496239; RoHS: Y; PinCount: 5; Code_JEITA: SC-88A; Code_JEDEC: MO-203-AA; Code_IPC: SOT353-5; ComponentLink1Description: LM94022 Datasheet; ComponentLink1URL: http://www.national.com/ds/LM/LM94022.pdf; ComponentLink2Description: LM94022 Web Page; ComponentLink2URL: http://www.national.com/pf/LM/LM94022.html; ComponentLink3Description: MAA05A Package Page; ComponentLink3URL: http://www.national.com/packaging/folders/maa05a.html
footprint MAA05A_N (SOT353, 5-Leads, Body 2x1.3mm, Pitch 0.65mm, Lead Span 2.1mm, IPC Medium Density)
footprint MAA05A_L (SOT353, 5-Leads, Body 2x1.3mm, Pitch 0.65mm, Lead Span 2.1mm, IPC High Density)
footprint MAA05A_M (SOT353, 5-Leads, Body 2x1.3mm, Pitch 0.65mm, Lead Span 2.1mm, IPC Low Density)
pins: 1 GSO (in), 2 GND (power), 3 OUT (out), 4 VDD (power), 5 GS1 (in)

## LM94022BIMGX
designator U?
1.5V, Multi-Gain Analog Temperature Sensor with Class-AB Output, 5-pin SC-70; PartNumber: LM94022BIMGX; Manufacturer: National Semiconductor; PackageTopMarking: 22B*XTT; PowerWise: Y; CompType: Temp Sensor IC; Published: 1-Mar-2010; DatasheetVersion: Mar-2009; PackageVersion: revD, Jun-2007; PackageReference: MAA05A; Publisher: Altium Limited; PackageDescription: Molded SC-70, 2 x 1.25 x .9mm, 5 Lead, 0.65mm Pitch; RoHS: N; PinCount: 5; Code_JEITA: SC-88A; Code_JEDEC: MO-203-AA; Code_IPC: SOT353-5; ComponentLink1Description: LM94022 Datasheet; ComponentLink1URL: http://www.national.com/ds/LM/LM94022.pdf; ComponentLink2Description: LM94022 Web Page; ComponentLink2URL: http://www.national.com/pf/LM/LM94022.html; ComponentLink3Description: MAA05A Package Page; ComponentLink3URL: http://www.national.com/packaging/folders/maa05a.html
footprint MAA05A_N (SOT353, 5-Leads, Body 2x1.3mm, Pitch 0.65mm, Lead Span 2.1mm, IPC Medium Density)
footprint MAA05A_L (SOT353, 5-Leads, Body 2x1.3mm, Pitch 0.65mm, Lead Span 2.1mm, IPC High Density)
footprint MAA05A_M (SOT353, 5-Leads, Body 2x1.3mm, Pitch 0.65mm, Lead Span 2.1mm, IPC Low Density)
pins: 1 GSO (in), 2 GND (power), 3 OUT (out), 4 VDD (power), 5 GS1 (in)

## LM94022BIMGX/NOPB
designator U?
1.5V, Multi-Gain Analog Temperature Sensor with Class-AB Output, 5-pin SC-70, Pb-Free; PartNumber: LM94022BIMGX/NOPB; Manufacturer: National Semiconductor; PackageTopMarking: 22B*XTT; PowerWise: Y; CompType: Temp Sensor IC; Published: 1-Mar-2010; DatasheetVersion: Mar-2009; PackageVersion: revD, Jun-2007; PackageReference: MAA05A; Publisher: Altium Limited; PackageDescription: Molded SC-70, 2 x 1.25 x .9mm, 5 Lead, 0.65mm Pitch; Supplier 1: Digi-Key; Supplier Part Number 1: LM94022BIMGX-ND; RoHS: Y; PinCount: 5; Code_JEITA: SC-88A; Code_JEDEC: MO-203-AA; Code_IPC: SOT353-5; ComponentLink1Description: LM94022 Datasheet; ComponentLink1URL: http://www.national.com/ds/LM/LM94022.pdf; ComponentLink2Description: LM94022 Web Page; ComponentLink2URL: http://www.national.com/pf/LM/LM94022.html; ComponentLink3Description: MAA05A Package Page; ComponentLink3URL: http://www.national.com/packaging/folders/maa05a.html
footprint MAA05A_N (SOT353, 5-Leads, Body 2x1.3mm, Pitch 0.65mm, Lead Span 2.1mm, IPC Medium Density)
footprint MAA05A_L (SOT353, 5-Leads, Body 2x1.3mm, Pitch 0.65mm, Lead Span 2.1mm, IPC High Density)
footprint MAA05A_M (SOT353, 5-Leads, Body 2x1.3mm, Pitch 0.65mm, Lead Span 2.1mm, IPC Low Density)
pins: 1 GSO (in), 2 GND (power), 3 OUT (out), 4 VDD (power), 5 GS1 (in)

## LM94022QBIMG
designator U?
1.5V, Multi-Gain Analog Temperature Sensor with Class-AB Output, 5-pin SC-70; PartNumber: LM94022QBIMG; Manufacturer: National Semiconductor; PackageTopMarking: 22Q*XTT; PowerWise: N; CompType: Temp Sensor IC; Published: 4-Dec-2008; DatasheetVersion: Mar-2009; PackageVersion: revD, Jun-2007; PackageReference: MAA05A; Publisher: Altium Limited; PackageDescription: Molded SC-70, 2 x 1.25 x .9mm, 5 Lead, 0.65mm Pitch; RoHS: Y; PinCount: 5; Code_JEITA: SC-88A; Code_JEDEC: MO-203-AA; Code_IPC: SOT353-5; ComponentLink1Description: LM94022 Datasheet; ComponentLink1URL: http://www.national.com/ds/LM/LM94022.pdf; ComponentLink2Description: LM94022 Web Page; ComponentLink2URL: http://www.national.com/pf/LM/LM94022.html; ComponentLink3Description: MAA05A Package Page; ComponentLink3URL: http://www.national.com/packaging/folders/maa05a.html
footprint MAA05A_N (SOT353, 5-Leads, Body 2x1.3mm, Pitch 0.65mm, Lead Span 2.1mm, IPC Medium Density)
footprint MAA05A_L (SOT353, 5-Leads, Body 2x1.3mm, Pitch 0.65mm, Lead Span 2.1mm, IPC High Density)
footprint MAA05A_M (SOT353, 5-Leads, Body 2x1.3mm, Pitch 0.65mm, Lead Span 2.1mm, IPC Low Density)
pins: 1 GSO (in), 2 GND (power), 3 OUT (out), 4 VDD (power), 5 GS1 (in)

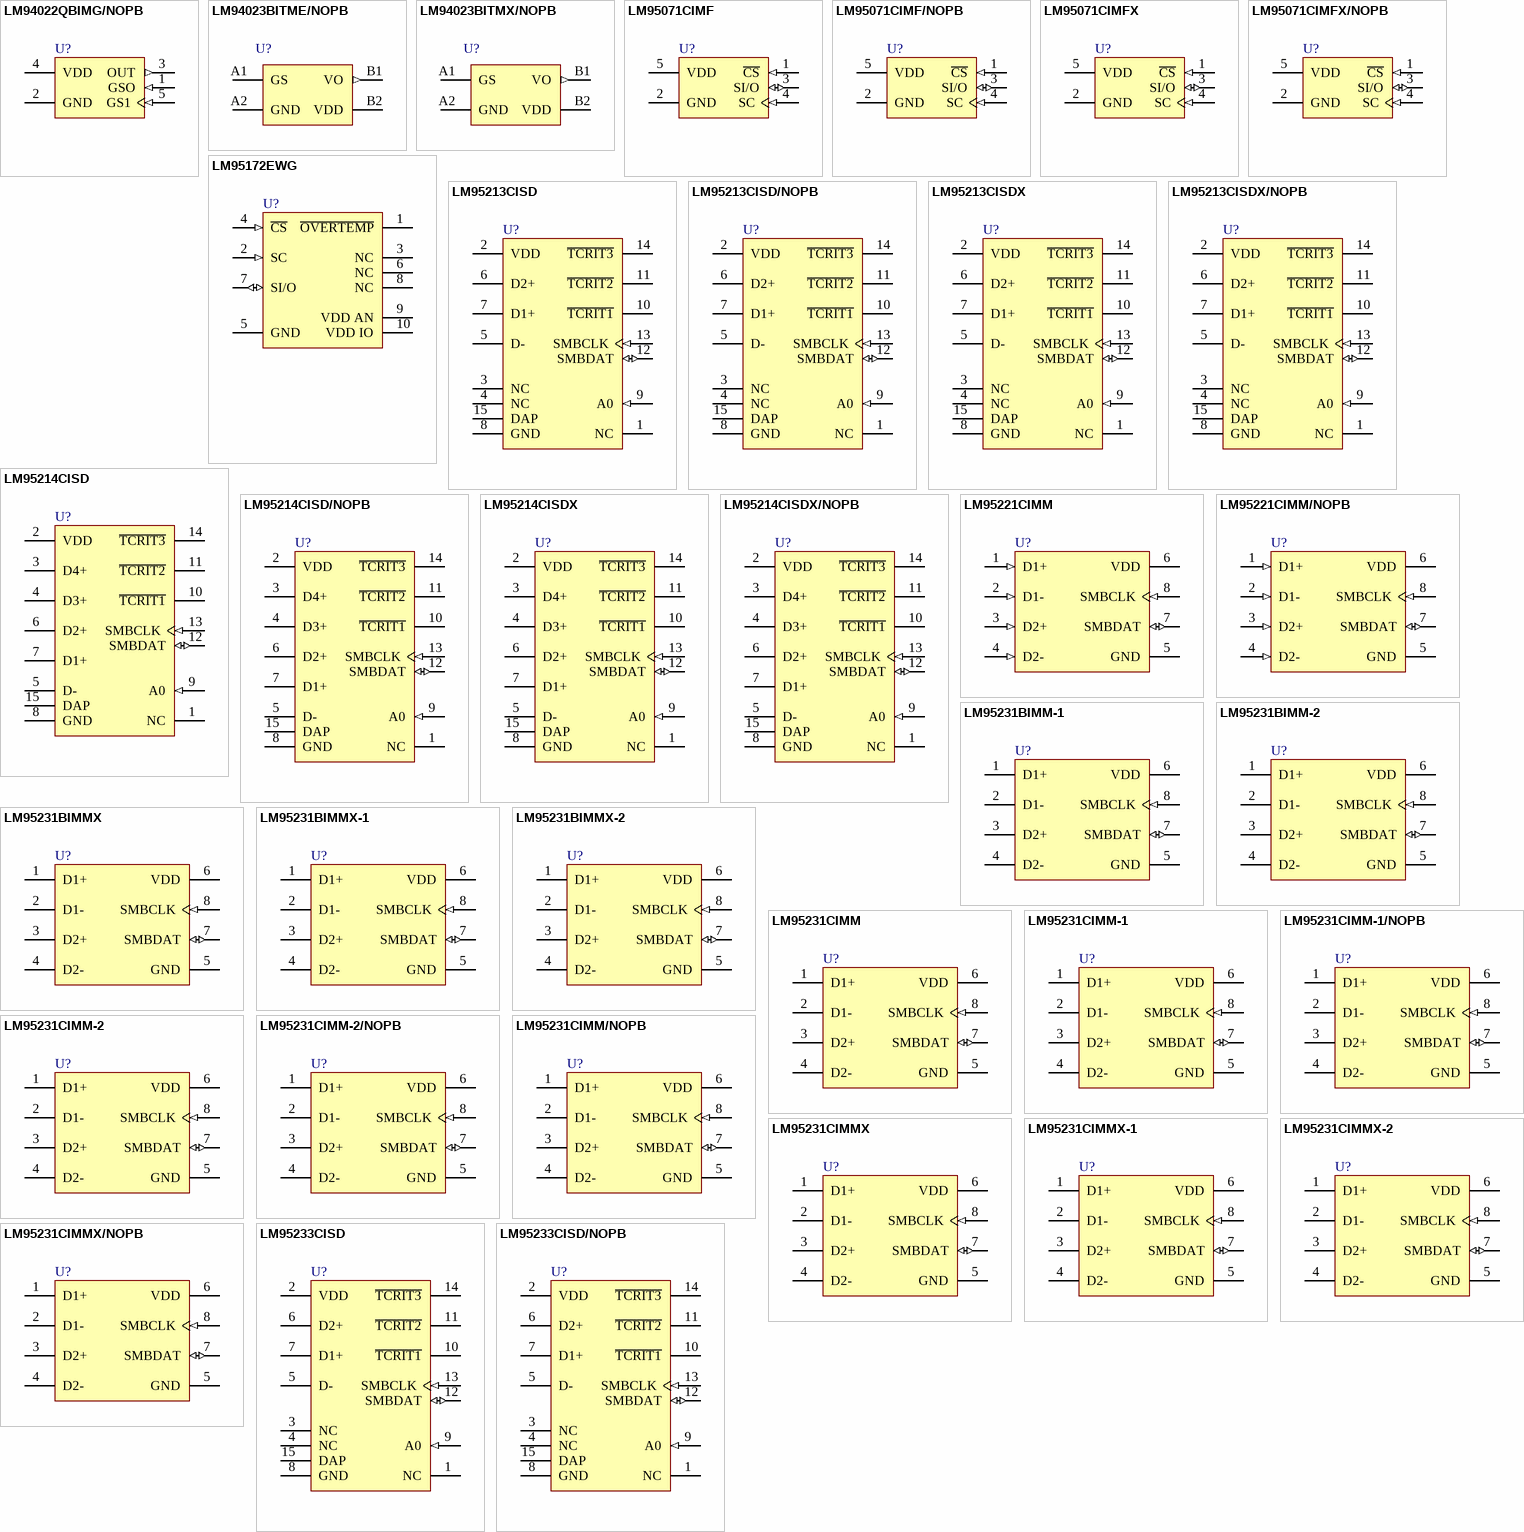
[diagram p7: symbols LM94022QBIMG/NOPB to LM95233CISD/NOPB]

## LM94022QBIMG/NOPB
designator U?
1.5V, Multi-Gain Analog Temperature Sensor with Class-AB Output, 5-pin SC-70, Pb-Free; PartNumber: LM94022QBIMG/NOPB; Manufacturer: National Semiconductor; PackageTopMarking: 22Q*XTT; PowerWise: N; CompType: Temp Sensor IC; Published: 1-Mar-2010; DatasheetVersion: Mar-2009; PackageVersion: revD, Jun-2007; PackageReference: MAA05A; Publisher: Altium Limited; PackageDescription: Molded SC-70, 2 x 1.25 x .9mm, 5 Lead, 0.65mm Pitch; Supplier 1: Digi-Key; Supplier Part Number 1: LM94022QBIMGTR-ND; Supplier 2: Digi-Key; Supplier Part Number 2: LM94022QBIMGCT-ND; Supplier 3: Digi-Key; Supplier Part Number 3: LM94022QBIMGDKR-ND; Supplier 4: Farnell; Supplier Part Number 4: 1694611; RoHS: Y; PinCount: 5; Code_JEITA: SC-88A; Code_JEDEC: MO-203-AA; Code_IPC: SOT353-5; ComponentLink1Description: LM94022 Datasheet; ComponentLink1URL: http://www.national.com/ds/LM/LM94022.pdf; ComponentLink2Description: LM94022 Web Page; ComponentLink2URL: http://www.national.com/pf/LM/LM94022.html; ComponentLink3Description: MAA05A Package Page; ComponentLink3URL: http://www.national.com/packaging/folders/maa05a.html
footprint MAA05A_N (SOT353, 5-Leads, Body 2x1.3mm, Pitch 0.65mm, Lead Span 2.1mm, IPC Medium Density)
footprint MAA05A_L (SOT353, 5-Leads, Body 2x1.3mm, Pitch 0.65mm, Lead Span 2.1mm, IPC High Density)
footprint MAA05A_M (SOT353, 5-Leads, Body 2x1.3mm, Pitch 0.65mm, Lead Span 2.1mm, IPC Low Density)
pins: 1 GSO (in), 2 GND (power), 3 OUT (out), 4 VDD (power), 5 GS1 (in)

## LM94023BITME/NOPB
designator U?
1.5V, Dual-Gain Analog Temperature Sensor with Class AB Output, 4-pin Micro SMD, Pb-Free; PartNumber: LM94023BITME/NOPB; Manufacturer: National Semiconductor; PackageTopMarking: X*I; PowerWise: Y; CompType: Temp Sensor IC; Published: 1-Mar-2010; DatasheetVersion: Sep-2008; PackageVersion: 2008; PackageReference: TMD04AAA; Publisher: Altium Limited; PackageDescription: Thin Micro SMD, 4 Bump, 0.4mm Pitch; Supplier 1: Digi-Key; Supplier Part Number 1: LM94023BITMETR-ND; Supplier 2: Digi-Key; Supplier Part Number 2: LM94023BITMECT-ND; Supplier 3: Digi-Key; Supplier Part Number 3: LM94023BITMEDKR-ND; Supplier 4: Farnell; Supplier Part Number 4: 1685789; RoHS: Y; PinCount: 4; ComponentLink1Description: LM94023 Datasheet; ComponentLink1URL: http://www.national.com/ds/LM/LM94023.pdf; ComponentLink2Description: LM94023 Web Page; ComponentLink2URL: http://www.national.com/pf/LM/LM94023.html; ComponentLink3Description: TMD04AAA Package Page; ComponentLink3URL: http://www.national.com/packaging/folders/tmd04aaa.html
footprint TMD04AAA (Micro SMD, 4-Leads, Body 0.82x0.82mm, Pitch 0.4mm, NSC Recommended)
pins: A1 GS "Ground", A2 GND (power) "Ground", B1 VO (out), B2 VDD (power)

## LM94023BITMX/NOPB
designator U?
1.5V, Dual-Gain Analog Temperature Sensor with Class AB Output, 4-pin Micro SMD, Pb-Free; PartNumber: LM94023BITMX/NOPB; Manufacturer: National Semiconductor; PackageTopMarking: X*I; PowerWise: Y; CompType: Temp Sensor IC; Published: 1-Mar-2010; DatasheetVersion: Sep-2008; PackageVersion: 2008; PackageReference: TMD04AAA; Publisher: Altium Limited; PackageDescription: Thin Micro SMD, 4 Bump, 0.4mm Pitch; Supplier 1: Digi-Key; Supplier Part Number 1: LM94023BITMX-ND; RoHS: Y; PinCount: 4; ComponentLink1Description: LM94023 Datasheet; ComponentLink1URL: http://www.national.com/ds/LM/LM94023.pdf; ComponentLink2Description: LM94023 Web Page; ComponentLink2URL: http://www.national.com/pf/LM/LM94023.html; ComponentLink3Description: TMD04AAA Package Page; ComponentLink3URL: http://www.national.com/packaging/folders/tmd04aaa.html
footprint TMD04AAA (Micro SMD, 4-Leads, Body 0.82x0.82mm, Pitch 0.4mm, NSC Recommended)
pins: A1 GS "Ground", A2 GND (power) "Ground", B1 VO (out), B2 VDD (power)

## LM95071CIMF
designator U?
SPI/MICROWIRE 13-Bit Plus Sign Temperature Sensor, 5-pin SOT-23; PartNumber: LM95071CIMF; Manufacturer: National Semiconductor; PackageTopMarking: T18C*XTT; PowerWise: Y; CompType: Temp Sensor IC; Published: 4-Dec-2008; DatasheetVersion: Feb-2005; PackageVersion: revD, Aug-2008; PackageReference: MF05A; Publisher: Altium Limited; PackageDescription: Molded SOT-23, .115 x .063 x .040 in Body, 5 Lead, .0375 in Pitch; Supplier 1: Farnell; Supplier Part Number 1: 1008035; RoHS: N; PinCount: 5; ComponentLink1Description: LM95071 Datasheet; ComponentLink1URL: http://www.national.com/ds/LM/LM95071.pdf; ComponentLink2Description: LM95071 Web Page; ComponentLink2URL: http://www.national.com/pf/LM/LM95071.html; ComponentLink3Description: MF05A Package Page; ComponentLink3URL: http://www.national.com/packaging/folders/mf05a.html
footprint MF05A_N (SOT23, 5-Leads, Body 2.9x1.6mm, Pitch 0.95mm, Lead Span 2.8mm, IPC Medium Density)
footprint MF05A_L (SOT23, 5-Leads, Body 2.9x1.6mm, Pitch 0.95mm, Lead Span 2.8mm, IPC High Density)
footprint MF05A_M (SOT23, 5-Leads, Body 2.9x1.6mm, Pitch 0.95mm, Lead Span 2.8mm, IPC Low Density)
pins: 1 ~{CS} (in), 2 GND (power), 3 SI/O (io), 4 SC (in), 5 VDD (power)

## LM95071CIMF/NOPB
designator U?
SPI/MICROWIRE 13-Bit Plus Sign Temperature Sensor, 5-pin SOT-23, Pb-Free; PartNumber: LM95071CIMF/NOPB; Manufacturer: National Semiconductor; PackageTopMarking: T18C*XTT; PowerWise: Y; CompType: Temp Sensor IC; Published: 1-Mar-2010; DatasheetVersion: Feb-2005; PackageVersion: revD, Aug-2008; PackageReference: MF05A; Publisher: Altium Limited; PackageDescription: Molded SOT-23, .115 x .063 x .040 in Body, 5 Lead, .0375 in Pitch; Supplier 1: Digi-Key; Supplier Part Number 1: LM95071CIMFTR-ND; Supplier 2: Digi-Key; Supplier Part Number 2: LM95071CIMFCT-ND; Supplier 3: Digi-Key; Supplier Part Number 3: LM95071CIMFDKR-ND; Supplier 4: Farnell; Supplier Part Number 4: 1559549; RoHS: Y; PinCount: 5; ComponentLink1Description: LM95071 Datasheet; ComponentLink1URL: http://www.national.com/ds/LM/LM95071.pdf; ComponentLink2Description: LM95071 Web Page; ComponentLink2URL: http://www.national.com/pf/LM/LM95071.html; ComponentLink3Description: MF05A Package Page; ComponentLink3URL: http://www.national.com/packaging/folders/mf05a.html
footprint MF05A_N (SOT23, 5-Leads, Body 2.9x1.6mm, Pitch 0.95mm, Lead Span 2.8mm, IPC Medium Density)
footprint MF05A_L (SOT23, 5-Leads, Body 2.9x1.6mm, Pitch 0.95mm, Lead Span 2.8mm, IPC High Density)
footprint MF05A_M (SOT23, 5-Leads, Body 2.9x1.6mm, Pitch 0.95mm, Lead Span 2.8mm, IPC Low Density)
pins: 1 ~{CS} (in), 2 GND (power), 3 SI/O (io), 4 SC (in), 5 VDD (power)

## LM95071CIMFX
designator U?
SPI/MICROWIRE 13-Bit Plus Sign Temperature Sensor, 5-pin SOT-23; PartNumber: LM95071CIMFX; Manufacturer: National Semiconductor; PackageTopMarking: T18C*XTT; PowerWise: Y; CompType: Temp Sensor IC; Published: 1-Mar-2010; DatasheetVersion: Feb-2005; PackageVersion: revD, Aug-2008; PackageReference: MF05A; Publisher: Altium Limited; PackageDescription: Molded SOT-23, .115 x .063 x .040 in Body, 5 Lead, .0375 in Pitch; RoHS: N; PinCount: 5; ComponentLink1Description: LM95071 Datasheet; ComponentLink1URL: http://www.national.com/ds/LM/LM95071.pdf; ComponentLink2Description: LM95071 Web Page; ComponentLink2URL: http://www.national.com/pf/LM/LM95071.html; ComponentLink3Description: MF05A Package Page; ComponentLink3URL: http://www.national.com/packaging/folders/mf05a.html
footprint MF05A_N (SOT23, 5-Leads, Body 2.9x1.6mm, Pitch 0.95mm, Lead Span 2.8mm, IPC Medium Density)
footprint MF05A_L (SOT23, 5-Leads, Body 2.9x1.6mm, Pitch 0.95mm, Lead Span 2.8mm, IPC High Density)
footprint MF05A_M (SOT23, 5-Leads, Body 2.9x1.6mm, Pitch 0.95mm, Lead Span 2.8mm, IPC Low Density)
pins: 1 ~{CS} (in), 2 GND (power), 3 SI/O (io), 4 SC (in), 5 VDD (power)

## LM95071CIMFX/NOPB
designator U?
SPI/MICROWIRE 13-Bit Plus Sign Temperature Sensor, 5-pin SOT-23, Pb-Free; PartNumber: LM95071CIMFX/NOPB; Manufacturer: National Semiconductor; PackageTopMarking: T18C*XTT; PowerWise: Y; CompType: Temp Sensor IC; Published: 1-Mar-2010; DatasheetVersion: Feb-2005; PackageVersion: revD, Aug-2008; PackageReference: MF05A; Publisher: Altium Limited; PackageDescription: Molded SOT-23, .115 x .063 x .040 in Body, 5 Lead, .0375 in Pitch; Supplier 1: Digi-Key; Supplier Part Number 1: LM95071CIMFX-ND; RoHS: Y; PinCount: 5; ComponentLink1Description: LM95071 Datasheet; ComponentLink1URL: http://www.national.com/ds/LM/LM95071.pdf; ComponentLink2Description: LM95071 Web Page; ComponentLink2URL: http://www.national.com/pf/LM/LM95071.html; ComponentLink3Description: MF05A Package Page; ComponentLink3URL: http://www.national.com/packaging/folders/mf05a.html
footprint MF05A_N (SOT23, 5-Leads, Body 2.9x1.6mm, Pitch 0.95mm, Lead Span 2.8mm, IPC Medium Density)
footprint MF05A_L (SOT23, 5-Leads, Body 2.9x1.6mm, Pitch 0.95mm, Lead Span 2.8mm, IPC High Density)
footprint MF05A_M (SOT23, 5-Leads, Body 2.9x1.6mm, Pitch 0.95mm, Lead Span 2.8mm, IPC Low Density)
pins: 1 ~{CS} (in), 2 GND (power), 3 SI/O (io), 4 SC (in), 5 VDD (power)

## LM95172EWG
designator U?
13-Bit to 16-Bit 200°C Digital Temp Sensor with 3-Wire Interface, 10-pin CerPACK; PartNumber: LM95172EWG; Manufacturer: National Semiconductor; PackageTopMarking: NSUZXYTT*LM95172*EWG; PowerWise: N; CompType: Temp Sensor IC; Published: 1-Mar-2010; DatasheetVersion: Dec-2009; PackageVersion: revF, Oct-2008; PackageReference: WG10A; Publisher: Altium Limited; PackageDescription: Cerpack, .270 x .241 x .070in, 10 Lead, .050in Pitch, Gull Wing; Supplier 1: Digi-Key; Supplier Part Number 1: LM95172EWG-ND; RoHS: N; PinCount: 10; ComponentLink1Description: LM95172 Datasheet; ComponentLink1URL: http://www.national.com/ds/LM/LM95172.pdf; ComponentLink2Description: LM95172 Web Page; ComponentLink2URL: http://www.national.com/pf/LM/LM95172.html; ComponentLink3Description: WG10A Package Page; ComponentLink3URL: http://www.national.com/packaging/folders/wg10a.html
footprint WG10A_N (CERPACK, 10-Leads, Body 6.9x6.3mm, Pitch 1.27mm, IPC Medium Density)
footprint WG10A_L (CERPACK, 10-Leads, Body 6.9x6.3mm, Pitch 1.27mm, IPC High Density)
footprint WG10A_M (CERPACK, 10-Leads, Body 6.9x6.3mm, Pitch 1.27mm, IPC Low Density)
pins: 1 ~{OVERTEMP} (oc), 2 SC (in), 3 NC, 4 ~{CS} (in), 5 GND (power), 6 NC, 7 SI/O (io), 8 NC, 9 VDD AN (power), 10 VDD IO (power)

## LM95213CISD
designator U?
2-Diode Input and Local Digital Temperature Sensor with Two-Wire Interface and TCRIT Outputs, 15-pin LLP; PartNumber: LM95213CISD; Manufacturer: National Semiconductor; PackageTopMarking: NS*UZXYTT*95213CI; PowerWise: Y; CompType: Temp Sensor IC; Published: 4-Dec-2008; DatasheetVersion: Mar-2007; PackageVersion: revA, Jul-2004; PackageReference: SDA14B; Publisher: Altium Limited; PackageDescription: LLP, Plastic, Dual, 4 x 4 x 0.8mm Body, 14 Lead, 0.5mm Pitch, No Pullback; Supplier 1: Farnell; Supplier Part Number 1: 1342334; RoHS: N; PinCount: 14; ComponentLink1Description: LM95213 Datasheet; ComponentLink1URL: http://www.national.com/ds/LM/LM95213.pdf; ComponentLink2Description: LM95213 Web Page; ComponentLink2URL: http://www.national.com/pf/LM/LM95213.html; ComponentLink3Description: SDA14B Package Page; ComponentLink3URL: http://www.national.com/packaging/folders/sda14b.html
footprint SDA14B (SON, 14-Leads, Body 4x4mm, Pitch 0.5mm, NSC Recommended)
pins: 1 NC, 2 VDD (power), 3 NC, 4 NC, 5 D-, 6 D2+, 7 D1+, 8 GND (power), 9 A0 (in), 10 ~{TCRIT1} (oc), 11 ~{TCRIT2} (oc), 12 SMBDAT (io), 13 SMBCLK (in), 14 ~{TCRIT3} (oc), 15 DAP (power)

## LM95213CISD/NOPB
designator U?
2-Diode Input and Local Digital Temperature Sensor with Two-Wire Interface and Outputs, 14-pin LLP, Pb-Free; PartNumber: LM95213CISD/NOPB; Manufacturer: National Semiconductor; PackageTopMarking: NS*UZXYTT*95213CI; PowerWise: Y; CompType: Temp Sensor IC; Published: 1-Mar-2010; DatasheetVersion: Mar-2007; PackageVersion: revA, Jul-2004; PackageReference: SDA14B; Publisher: Altium Limited; PackageDescription: LLP, Plastic, Dual, 4 x 4 x 0.8mm Body, 14 Lead, 0.5mm Pitch, No Pullback; Supplier 1: Digi-Key; Supplier Part Number 1: LM95213CISDTR-ND; Supplier 2: Digi-Key; Supplier Part Number 2: LM95213CISDCT-ND; Supplier 3: Digi-Key; Supplier Part Number 3: LM95213CISDDKR-ND; RoHS: Y; PinCount: 14; ComponentLink1Description: LM95213 Datasheet; ComponentLink1URL: http://www.national.com/ds/LM/LM95213.pdf; ComponentLink2Description: LM95213 Web Page; ComponentLink2URL: http://www.national.com/pf/LM/LM95213.html; ComponentLink3Description: SDA14B Package Page; ComponentLink3URL: http://www.national.com/packaging/folders/sda14b.html
footprint SDA14B (SON, 14-Leads, Body 4x4mm, Pitch 0.5mm, NSC Recommended)
pins: 1 NC, 2 VDD (power), 3 NC, 4 NC, 5 D-, 6 D2+, 7 D1+, 8 GND (power), 9 A0 (in), 10 ~{TCRIT1} (oc), 11 ~{TCRIT2} (oc), 12 SMBDAT (io), 13 SMBCLK (in), 14 ~{TCRIT3} (oc), 15 DAP (power)

## LM95213CISDX
designator U?
2-Diode Input and Local Digital Temperature Sensor with Two-Wire Interface and Outputs, 14-pin LLP; PartNumber: LM95213CISDX; Manufacturer: National Semiconductor; PackageTopMarking: NS*UZXYTT*95213CI; PowerWise: Y; CompType: Temp Sensor IC; Published: 1-Mar-2010; DatasheetVersion: Mar-2007; PackageVersion: revA, Jul-2004; PackageReference: SDA14B; Publisher: Altium Limited; PackageDescription: LLP, Plastic, Dual, 4 x 4 x 0.8mm Body, 14 Lead, 0.5mm Pitch, No Pullback; RoHS: N; PinCount: 14; ComponentLink1Description: LM95213 Datasheet; ComponentLink1URL: http://www.national.com/ds/LM/LM95213.pdf; ComponentLink2Description: LM95213 Web Page; ComponentLink2URL: http://www.national.com/pf/LM/LM95213.html; ComponentLink3Description: SDA14B Package Page; ComponentLink3URL: http://www.national.com/packaging/folders/sda14b.html
footprint SDA14B (SON, 14-Leads, Body 4x4mm, Pitch 0.5mm, NSC Recommended)
pins: 1 NC, 2 VDD (power), 3 NC, 4 NC, 5 D-, 6 D2+, 7 D1+, 8 GND (power), 9 A0 (in), 10 ~{TCRIT1} (oc), 11 ~{TCRIT2} (oc), 12 SMBDAT (io), 13 SMBCLK (in), 14 ~{TCRIT3} (oc), 15 DAP (power)